# Altium footprint library PCB - CONNECTOR - MOLEX - MOLEX 1053091102.PcbLib: 1 footprints
Each footprint in its own frame and in the unit in brackets; x right, y up, seen from the top. Pads: shape width x height; smd on the part's side, far side on the other; paste and mask are expansions set on the pad; w line width, h text height; cw(c..) or ccw(c..) is an arc to the next point about the centre after c.
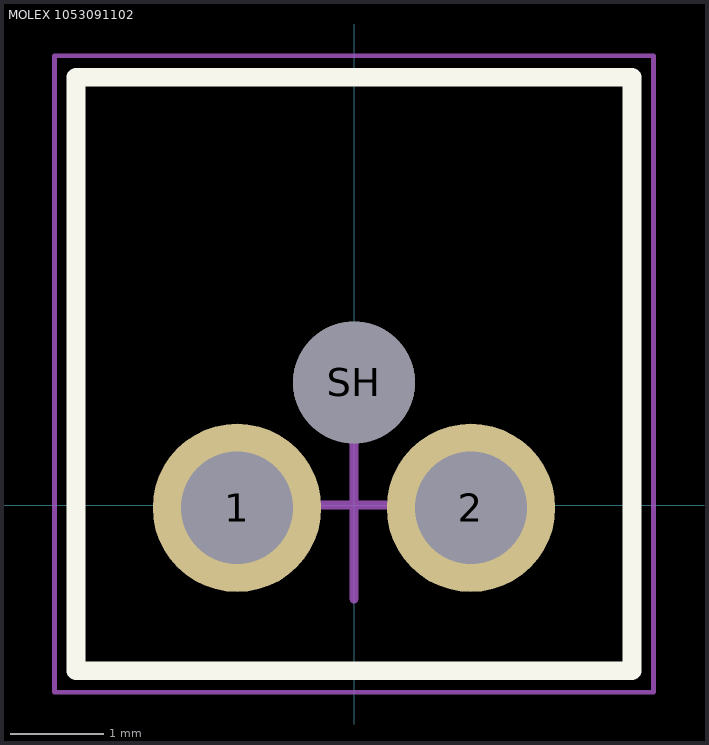
[diagram p0: the footprint, top view; thin cyan lines are the x and y axes]

## MOLEX 1053091102 [mm] "Connector Header Through Hole 2 position, 2mm Pitch, 5.94x6.34 mm Body"
height 10.51
pads (3):
  round 1.8 hole 1.2: 1(-1.25,-0.03) 2(1.25,-0.03)
  round 1.3 hole 1.3: SH(0,1.31)
Top Overlay:
  lines w0.2: -2.97,-1.77 -2.97,4.57 2.97,4.57 2.97,-1.77 -2.97,-1.77
Mechanical 13:
  lines w0.1: -2.97,-1.77 -2.97,4.57 2.97,4.57 2.97,-1.77 -2.97,-1.77
Mechanical 15 (Mech15):
  lines w0.05: -3.2,-2 -3.2,4.8 3.2,4.8 3.2,-2 -3.2,-2
  lines w0.1: -1,0 0,0 ; 0,-1 0,0 ; 0,1 0,0 ; 1,0 0,0
3D body: height 10.51, standoff -3.2, extent -2.97,-1.77 2.97,4.57